# EAGLE library part 692121030100 (library WR-USB)
WR-USB Standard Connectors Characteristics Widely used Type-A and Type-B connectors, available in different orientation Various mount types: SMT, THT, THR Pin configuration: 4 pins for USB 2.0 / 9 pins for USB 3.x Durable and backward compatible with older USB versions UL, TID listing for USB standards Applications Office and desktop computing systems Industrial control and automation equipment Consumer electronics and peripherals Audio-visual and broadcast systems Details see: www.we-online.com/en/components/products/INPUT_OUTPUT_WR_USB_STANDARD Updated by Ella 2024-05-21 2024 (C) Würth Elektronik
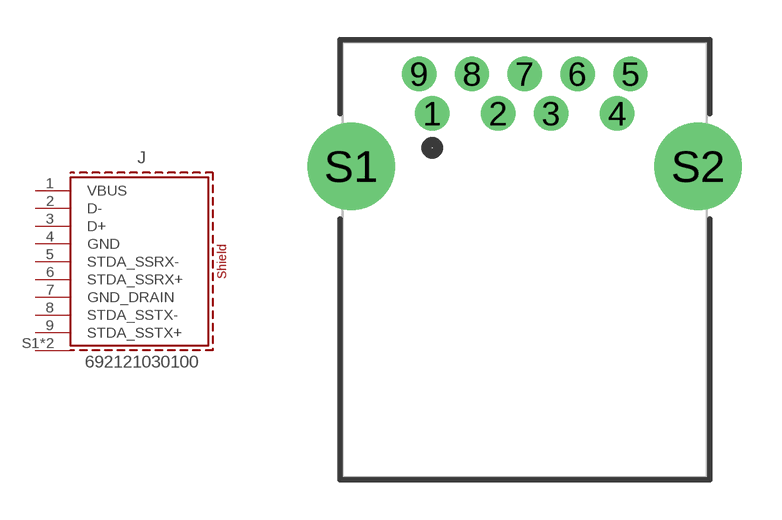
[diagram p11: symbol with the pads of 692121030100; footprint 692121030100]

Designator prefix J

## 692121030100 (APPLICATION: USB 3.0; DATASHEET: https://www.we-online.com/redexpert/spec/692121030100?ae; GERDER: Receptacle; INTERFACE-TYPE: Type A; IR: 1.8 A; MOUNT: THT; PACKAGING: Tape and Reel; PART-NUMBER: 692121030100; PINS: 9pcs; TYPE: Horizontal; VALUE: 692121030100; WORKING-VOLTAGE: 30 V (AC))  [692121030100]
1  VBUS  pas
2  D-  pas
3  D+  pas
4  GND  pas
5  STDA_SSRX-  pas
6  STDA_SSRX+  pas
7  GND_DRAIN  pas
8  STDA_SSTX-  pas
9  STDA_SSTX+  pas
S1  SHIELD  pas
S2  SHIELD  pas

## Footprint 692121030100 (pad centres in mm)
WR-USB Standard Connectors USB 3.0, Type A, Horizontal THT, 9Pins
drill 0.7 pad 1.3: 1 -3.5,5.36; 2 -1,5.36; 3 1,5.36; 4 3.5,5.36; 5 4,6.86; 6 2,6.86; 7 0,6.86; 8 -2,6.86; 9 -4,6.86
drill 2.3 pad 3.3: S1 -6.57,3.36; S2 6.57,3.36